# Altium footprint library YNH-MN316.PcbLib: 1 footprints
Each footprint in its own frame and in the unit in brackets; x right, y up, seen from the top. Pads: shape width x height; smd on the part's side, far side on the other; paste and mask are expansions set on the pad; w line width, h text height; cw(c..) or ccw(c..) is an arc to the next point about the centre after c.
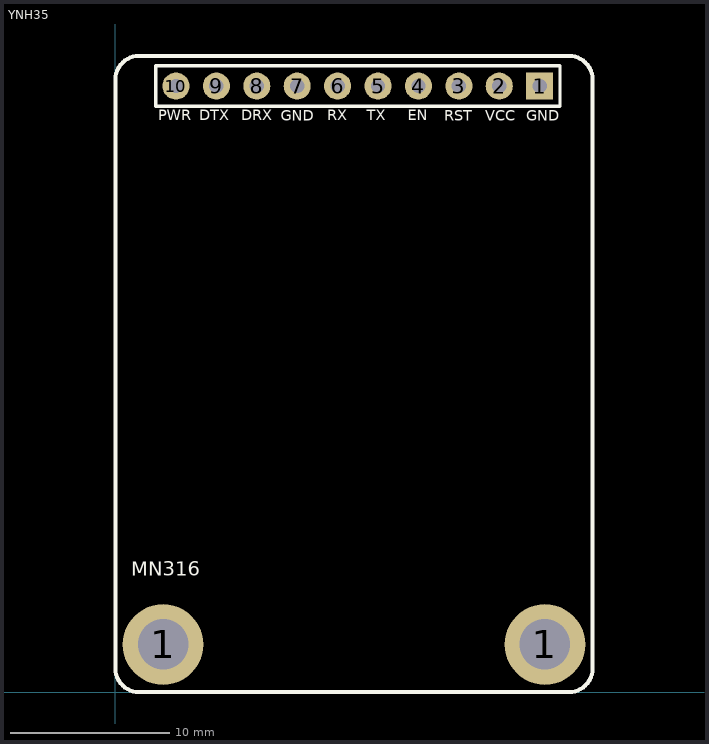
[diagram p0: the footprint, top view; thin cyan lines are the x and y axes]

## YNH35 [mm]
pads (12):
  round 5.08 hole 3.175: 1(3,3) 1(27,3)
  rect 1.7x1.7 hole 0.9: 1(26.67,38.1)
  round 1.7 hole 0.9: 2(24.13,38.1) 3(21.59,38.1) 4(19.05,38.1) 5(16.51,38.1) 6(13.97,38.1) 7(11.43,38.1) 8(8.89,38.1) 9(6.35,38.1) 10(3.81,38.1)
Bottom Layer:
  lines w0.254: 19.05,38.1 19.126,38.1
Top Overlay:
  lines w0.2: 2.54,36.83 2.54,39.37 27.94,39.37 27.94,36.83 2.54,36.83
  lines w0.254: 30,38.5 ccw(c28.5,38.5) 28.5,40 1.5,40 ccw(c1.5,38.5) 0,38.5 0,1.5 ccw(c1.5,1.5) 1.5,0 28.5,0 ccw(c28.5,1.5) 30,1.5 30,38.5 ; 30,38.5 30,38.5
  text "MN316" at 1,7 h1.52
  text "GND" at 10.406,35.712 h1.14
  text "PWR" at 2.692,35.725 h1.14
  text "GND" at 25.832,35.712 h1.14
  text "VCC" at 23.262,35.712 h1.14
  text "RST" at 20.664,35.712 h1.14
  text "EN" at 18.373,35.725 h1.14
  text "TX" at 15.802,35.725 h1.14
  text "RX" at 13.307,35.725 h1.14
  text "DTX" at 5.263,35.725 h1.14
  text "DRX" at 7.925,35.725 h1.14